# EAGLE library part DS1305 (library dallas-rtc)
Serial Alarm Real-Time Clock
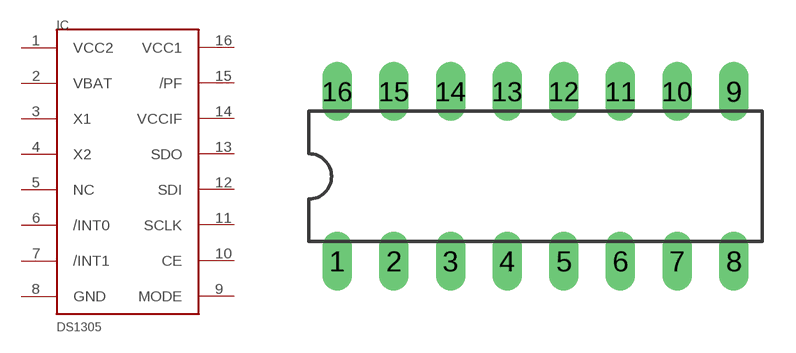
[diagram p1: symbol with the pads of DIL16; footprint DIL16]

Designator prefix IC

## DS1305  [DIL16]
1  VCC2  pwr
2  VBAT  pwr
3  X1  in
4  X2  out
5  NC
6  /INT0  out
7  /INT1  out
8  GND  pwr
9  MODE  in
10  CE  in
11  SCLK  in
12  SDI  in
13  SDO  out
14  VCCIF  pwr
15  /PF  out
16  VCC1  pwr

## Footprint DIL16 (pad centres in mm)
Dual In Line Package
drill 0.813 long: 1 -8.89,-3.81; 2 -6.35,-3.81; 3 -3.81,-3.81; 4 -1.27,-3.81; 5 1.27,-3.81; 6 3.81,-3.81; 7 6.35,-3.81; 8 8.89,-3.81; 9 8.89,3.81; 10 6.35,3.81; 11 3.81,3.81; 12 1.27,3.81; 13 -1.27,3.81; 14 -3.81,3.81; 15 -6.35,3.81; 16 -8.89,3.81